# EAGLE library part ESP32-WROMM-UPESY (library JLB6_Processor)
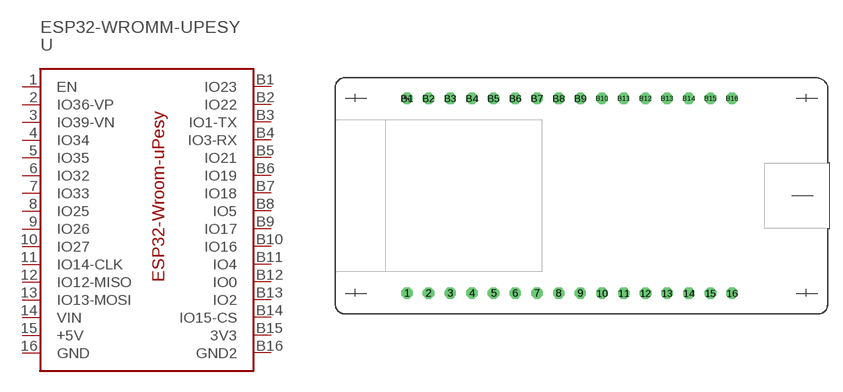
[diagram p35: symbol with the pads of ESP32-UPESY; footprint ESP32-UPESY]

Designator prefix -

## ESP32-WROMM-UPESY  [ESP32-UPESY]
1  EN  in
2  IO36-VP
3  IO39-VN
4  IO34
5  IO35
6  IO32
7  IO33
8  IO25
9  IO26
10  IO27
11  IO14-CLK
12  IO12-MISO
13  IO13-MOSI
14  VIN
15  +5V  pwr
16  GND  pwr
B1  IO23
B2  IO22
B3  IO1-TX
B4  IO3-RX
B5  IO21
B6  IO19
B7  IO18
B8  IO5
B9  IO17
B10  IO16
B11  IO4
B12  IO0
B13  IO2
B14  IO15-CS
B15  3V3  pwr
B16  GND2  pwr

## Footprint ESP32-UPESY (pad centres in mm)
drill 0.813 octagon: 1 -8.89,-11.43; 2 -6.35,-11.43; 3 -3.81,-11.43; 4 -1.27,-11.43; 5 1.27,-11.43; 6 3.81,-11.43; 7 6.35,-11.43; 8 8.89,-11.43; 9 11.43,-11.43; 10 13.97,-11.43; 11 16.51,-11.43; 12 19.05,-11.43; 13 21.59,-11.43; 14 24.13,-11.43; 15 26.67,-11.43; 16 29.21,-11.43; B1 -8.89,11.43; B2 -6.35,11.43; B3 -3.81,11.43; B4 -1.27,11.43; B5 1.27,11.43; B6 3.81,11.43; B7 6.35,11.43; B8 8.89,11.43; B9 11.43,11.43; B10 13.97,11.43; B11 16.51,11.43; B12 19.05,11.43; B13 21.59,11.43; B14 24.13,11.43; B15 26.67,11.43; B16 29.21,11.43